# Altium schematic symbol library Connector.SchLib: 1 symbol
Pins are listed as number, name and electrical type; pins without a type are passive.

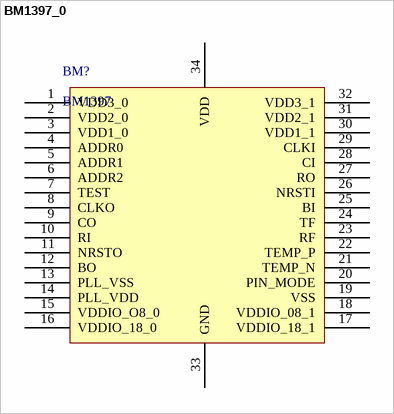
[diagram p0: symbol BM1397_0]

## BM1397_0
designator BM?, comment BM1397
footprint BM1387
footprint Connector
pins: 1 VDD3_0, 2 VDD2_0, 3 VDD1_0, 4 ADDR0, 5 ADDR1, 6 ADDR2, 7 TEST, 8 CLKO, 9 CO, 10 RI, 11 NRSTO, 12 BO, 13 PLL_VSS, 14 PLL_VDD, 15 VDDIO_O8_0, 16 VDDIO_18_0, 17 VDDIO_18_1, 18 VDDIO_08_1, 19 VSS, 20 PIN_MODE, 21 TEMP_N, 22 TEMP_P, 23 RF, 24 TF, 25 BI, 26 NRSTI, 27 RO, 28 CI, 29 CLKI, 30 VDD1_1, 31 VDD2_1, 32 VDD3_1, 33 GND, 34 VDD